# Altium schematic symbol library WE-PDF.SchLib: 26 symbols
Pins are listed as number, name and electrical type; pins without a type are passive.

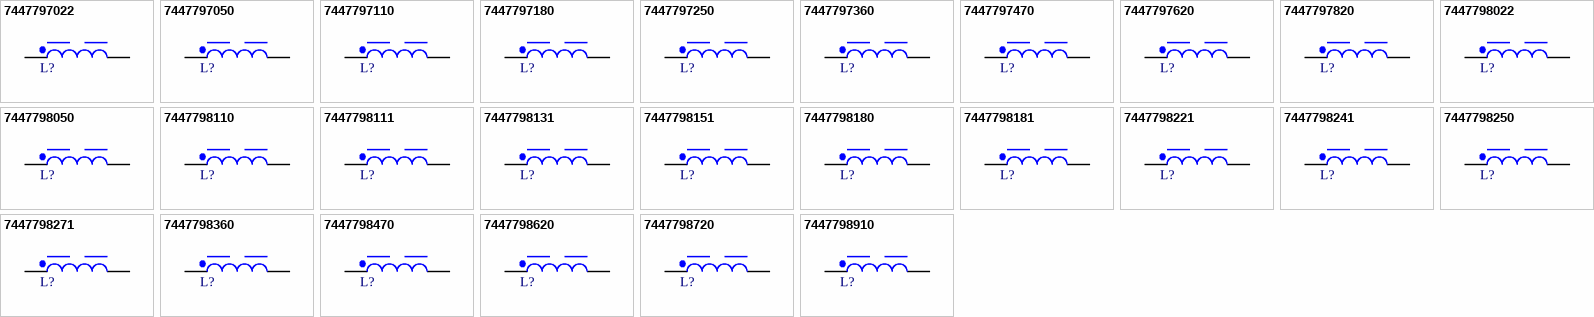
[diagram p0: symbols 7447797022 to 7447798910]

## 7447797022
designator L?, comment 0.22µH, 16A  (value not drawn)
WE-PDF SMT Power Inductor, size 1045, 0.22µH, 16A, 3.5mΩ; Manufacturer Part Number: 7447797022; Manufacturer: Wurth Elektronik; Case/Size Code: 1045; DC Resistance: 2.9mΩ; Saturation Current: 32A; Self Resonant Frequency: 328MHz; Category: Shielded Power Inductors; Match Code: WE-PDF; ComponentLink1Description: Website Link; ComponentLink1URL: https://www.we-online.com/redexpert/article/7447797022?ad; ComponentLink2Description: Datasheet Link; ComponentLink2URL: https://www.we-online.com/redexpert/spec/7447797022?ad; Mount: Surface Mount; Operating Temperature Max: 150°C; Operating Temperature Min: -40°C; Packaging: Tape and Reel; Length: 10.2mm; Width: 10.2mm; Height: 4.5mm; DC Resistance Max: 3.5mΩ; Inductance: 0.22µH; Rated Current: 16A
footprint WE-PDF_1045
simulation model 1045_7447797022_0.22u
pins: 1, 2

## 7447797050
designator L?, comment 0.5µH, 13.2A  (value not drawn)
WE-PDF SMT Power Inductor, size 1045, 0.5µH, 13.2A, 5mΩ; Manufacturer Part Number: 7447797050; Manufacturer: Wurth Elektronik; Case/Size Code: 1045; DC Resistance: 4.3mΩ; Saturation Current: 23A; Self Resonant Frequency: 182MHz; Category: Shielded Power Inductors; Match Code: WE-PDF; ComponentLink1Description: Website Link; ComponentLink1URL: https://www.we-online.com/redexpert/article/7447797050?ad; ComponentLink2Description: Datasheet Link; ComponentLink2URL: https://www.we-online.com/redexpert/spec/7447797050?ad; Mount: Surface Mount; Operating Temperature Max: 150°C; Operating Temperature Min: -40°C; Packaging: Tape and Reel; Length: 10.2mm; Width: 10.2mm; Height: 4.5mm; DC Resistance Max: 5mΩ; Inductance: 0.5µH; Rated Current: 13.2A
footprint WE-PDF_1045
simulation model 1045_7447797050_0.5u
pins: 1, 2

## 7447797110
designator L?, comment 1.1µH, 11.2A  (value not drawn)
WE-PDF SMT Power Inductor, size 1045, 1.1µH, 11.2A, 6.65mΩ; Manufacturer Part Number: 7447797110; Manufacturer: Wurth Elektronik; Case/Size Code: 1045; DC Resistance: 5.9mΩ; Saturation Current: 16A; Self Resonant Frequency: 116MHz; Category: Shielded Power Inductors; Match Code: WE-PDF; ComponentLink1Description: Website Link; ComponentLink1URL: https://www.we-online.com/redexpert/article/7447797110?ad; ComponentLink2Description: Datasheet Link; ComponentLink2URL: https://www.we-online.com/redexpert/spec/7447797110?ad; Mount: Surface Mount; Operating Temperature Max: 150°C; Operating Temperature Min: -40°C; Packaging: Tape and Reel; Length: 10.2mm; Width: 10.2mm; Height: 4.5mm; DC Resistance Max: 6.65mΩ; Inductance: 1.1µH; Rated Current: 11.2A
footprint WE-PDF_1045
simulation model 1045_7447797110_1.1u
pins: 1, 2

## 7447797180
designator L?, comment 1.8µH, 9.4A  (value not drawn)
WE-PDF SMT Power Inductor, size 1045, 1.8µH, 9.4A, 8.4mΩ; Manufacturer Part Number: 7447797180; Manufacturer: Wurth Elektronik; Case/Size Code: 1045; DC Resistance: 7.4mΩ; Saturation Current: 13A; Self Resonant Frequency: 86MHz; Category: Shielded Power Inductors; Match Code: WE-PDF; ComponentLink1Description: Website Link; ComponentLink1URL: https://www.we-online.com/redexpert/article/7447797180?ad; ComponentLink2Description: Datasheet Link; ComponentLink2URL: https://www.we-online.com/redexpert/spec/7447797180?ad; Mount: Surface Mount; Operating Temperature Max: 150°C; Operating Temperature Min: -40°C; Packaging: Tape and Reel; Length: 10.2mm; Width: 10.2mm; Height: 4.5mm; DC Resistance Max: 8.4mΩ; Inductance: 1.8µH; Rated Current: 9.4A
footprint WE-PDF_1045
simulation model 1045_7447797180_1.8u
pins: 1, 2

## 7447797250
designator L?, comment 2.5µH, 8.4A  (value not drawn)
WE-PDF SMT Power Inductor, size 1045, 2.5µH, 8.4A, 10.2mΩ; Manufacturer Part Number: 7447797250; Manufacturer: Wurth Elektronik; Case/Size Code: 1045; DC Resistance: 9mΩ; Saturation Current: 10.5A; Self Resonant Frequency: 61MHz; Category: Shielded Power Inductors; Match Code: WE-PDF; ComponentLink1Description: Website Link; ComponentLink1URL: https://www.we-online.com/redexpert/article/7447797250?ad; ComponentLink2Description: Datasheet Link; ComponentLink2URL: https://www.we-online.com/redexpert/spec/7447797250?ad; Mount: Surface Mount; Operating Temperature Max: 150°C; Operating Temperature Min: -40°C; Packaging: Tape and Reel; Length: 10.2mm; Width: 10.2mm; Height: 4.5mm; DC Resistance Max: 10.2mΩ; Inductance: 2.5µH; Rated Current: 8.4A
footprint WE-PDF_1045
simulation model 1045_7447797250_2.5u
pins: 1, 2

## 7447797360
designator L?, comment 3.6µH, 8.2A  (value not drawn)
WE-PDF SMT Power Inductor, size 1045, 3.6µH, 8.2A, 12.2mΩ; Manufacturer Part Number: 7447797360; Manufacturer: Wurth Elektronik; Case/Size Code: 1045; DC Resistance: 10.8mΩ; Saturation Current: 8.5A; Self Resonant Frequency: 55MHz; Category: Shielded Power Inductors; Match Code: WE-PDF; ComponentLink1Description: Website Link; ComponentLink1URL: https://www.we-online.com/redexpert/article/7447797360?ad; ComponentLink2Description: Datasheet Link; ComponentLink2URL: https://www.we-online.com/redexpert/spec/7447797360?ad; Mount: Surface Mount; Operating Temperature Max: 150°C; Operating Temperature Min: -40°C; Packaging: Tape and Reel; Length: 10.2mm; Width: 10.2mm; Height: 4.5mm; DC Resistance Max: 12.2mΩ; Inductance: 3.6µH; Rated Current: 8.2A
footprint WE-PDF_1045
simulation model 1045_7447797360_3.6u
pins: 1, 2

## 7447797470
designator L?, comment 4.7µH, 6.2A  (value not drawn)
WE-PDF SMT Power Inductor, size 1045, 4.7µH, 6.2A, 19.5mΩ; Manufacturer Part Number: 7447797470; Manufacturer: Wurth Elektronik; Case/Size Code: 1045; DC Resistance: 17.3mΩ; Saturation Current: 8A; Self Resonant Frequency: 45MHz; Category: Shielded Power Inductors; Match Code: WE-PDF; ComponentLink1Description: Website Link; ComponentLink1URL: https://www.we-online.com/redexpert/article/7447797470?ad; ComponentLink2Description: Datasheet Link; ComponentLink2URL: https://www.we-online.com/redexpert/spec/7447797470?ad; Mount: Surface Mount; Operating Temperature Max: 150°C; Operating Temperature Min: -40°C; Packaging: Tape and Reel; Length: 10.2mm; Width: 10.2mm; Height: 4.5mm; DC Resistance Max: 19.5mΩ; Inductance: 4.7µH; Rated Current: 6.2A
footprint WE-PDF_1045
simulation model 1045_7447797470_4.7u
pins: 1, 2

## 7447797620
designator L?, comment 6.2µH, 5.7A  (value not drawn)
WE-PDF SMT Power Inductor, size 1045, 6.2µH, 5.7A, 22.4mΩ; Manufacturer Part Number: 7447797620; Manufacturer: Wurth Elektronik; Case/Size Code: 1045; DC Resistance: 19.8mΩ; Saturation Current: 7.4A; Self Resonant Frequency: 36MHz; Category: Shielded Power Inductors; Match Code: WE-PDF; ComponentLink1Description: Website Link; ComponentLink1URL: https://www.we-online.com/redexpert/article/7447797620?ad; ComponentLink2Description: Datasheet Link; ComponentLink2URL: https://www.we-online.com/redexpert/spec/7447797620?ad; Mount: Surface Mount; Operating Temperature Max: 150°C; Operating Temperature Min: -40°C; Packaging: Tape and Reel; Length: 10.2mm; Width: 10.2mm; Height: 4.5mm; DC Resistance Max: 22.4mΩ; Inductance: 6.2µH; Rated Current: 5.7A
footprint WE-PDF_1045
simulation model 1045_7447797620_6.2u
pins: 1, 2

## 7447797820
designator L?, comment 8.2µH, 5.05A  (value not drawn)
WE-PDF SMT Power Inductor, size 1045, 8.2µH, 5.05A, 28.6mΩ; Manufacturer Part Number: 7447797820; Manufacturer: Wurth Elektronik; Case/Size Code: 1045; DC Resistance: 25.3mΩ; Saturation Current: 5.8A; Self Resonant Frequency: 28MHz; Category: Shielded Power Inductors; Match Code: WE-PDF; ComponentLink1Description: Website Link; ComponentLink1URL: https://www.we-online.com/redexpert/article/7447797820?ad; ComponentLink2Description: Datasheet Link; ComponentLink2URL: https://www.we-online.com/redexpert/spec/7447797820?ad; Mount: Surface Mount; Operating Temperature Max: 150°C; Operating Temperature Min: -40°C; Packaging: Tape and Reel; Length: 10.2mm; Width: 10.2mm; Height: 4.5mm; DC Resistance Max: 28.6mΩ; Inductance: 8.2µH; Rated Current: 5.05A
footprint WE-PDF_1045
simulation model 1045_7447797820_8.2u
pins: 1, 2

## 7447798022
designator L?, comment 0.22µH, 19A  (value not drawn)
WE-PDF SMT Power Inductor, size 1064, 0.22µH, 19A, 1.95mΩ; Manufacturer Part Number: 7447798022; Manufacturer: Wurth Elektronik; Case/Size Code: 1064; DC Resistance: 1.6mΩ; Saturation Current: 20A; Self Resonant Frequency: 337MHz; Category: Shielded Power Inductors; Match Code: WE-PDF; ComponentLink1Description: Website Link; ComponentLink1URL: https://www.we-online.com/redexpert/article/7447798022?ad; ComponentLink2Description: Datasheet Link; ComponentLink2URL: https://www.we-online.com/redexpert/spec/7447798022?ad; Mount: Surface Mount; Operating Temperature Max: 150°C; Operating Temperature Min: -40°C; Packaging: Tape and Reel; Length: 10.2mm; Width: 10.2mm; Height: 6.4mm; DC Resistance Max: 1.95mΩ; Inductance: 0.22µH; Rated Current: 19A
footprint WE-PDF_1064
simulation model 1064_7447798022_0.22u
pins: 1, 2

## 7447798050
designator L?, comment 0.5µH, 18.5A  (value not drawn)
WE-PDF SMT Power Inductor, size 1064, 0.5µH, 18.5A, 2.65mΩ; Manufacturer Part Number: 7447798050; Manufacturer: Wurth Elektronik; Case/Size Code: 1064; DC Resistance: 2.2mΩ; Saturation Current: 18A; Self Resonant Frequency: 172MHz; Category: Shielded Power Inductors; Match Code: WE-PDF; ComponentLink1Description: Website Link; ComponentLink1URL: https://www.we-online.com/redexpert/article/7447798050?ad; ComponentLink2Description: Datasheet Link; ComponentLink2URL: https://www.we-online.com/redexpert/spec/7447798050?ad; Mount: Surface Mount; Operating Temperature Max: 150°C; Operating Temperature Min: -40°C; Packaging: Tape and Reel; Length: 10.2mm; Width: 10.2mm; Height: 6.4mm; DC Resistance Max: 2.65mΩ; Inductance: 0.5µH; Rated Current: 18.5A
footprint WE-PDF_1064
simulation model 1064_7447798050_0.5u
pins: 1, 2

## 7447798110
designator L?, comment 1.1µH, 16.5A  (value not drawn)
WE-PDF SMT Power Inductor, size 1064, 1.1µH, 16.5A, 3.5mΩ; Manufacturer Part Number: 7447798110; Manufacturer: Wurth Elektronik; Case/Size Code: 1064; DC Resistance: 3mΩ; Saturation Current: 16A; Self Resonant Frequency: 104MHz; Category: Shielded Power Inductors; Match Code: WE-PDF; ComponentLink1Description: Website Link; ComponentLink1URL: https://www.we-online.com/redexpert/article/7447798110?ad; ComponentLink2Description: Datasheet Link; ComponentLink2URL: https://www.we-online.com/redexpert/spec/7447798110?ad; Mount: Surface Mount; Operating Temperature Max: 150°C; Operating Temperature Min: -40°C; Packaging: Tape and Reel; Length: 10.2mm; Width: 10.2mm; Height: 6.4mm; DC Resistance Max: 3.5mΩ; Inductance: 1.1µH; Rated Current: 16.5A
footprint WE-PDF_1064
simulation model 1064_7447798110_1.1u
pins: 1, 2

## 7447798111
designator L?, comment 11µH, 6.9A  (value not drawn)
WE-PDF SMT Power Inductor, size 1064, 11µH, 6.9A, 15.8mΩ; Manufacturer Part Number: 7447798111; Manufacturer: Wurth Elektronik; Case/Size Code: 1064; DC Resistance: 14mΩ; Saturation Current: 5.3A; Self Resonant Frequency: 25MHz; Category: Shielded Power Inductors; Match Code: WE-PDF; ComponentLink1Description: Website Link; ComponentLink1URL: https://www.we-online.com/redexpert/article/7447798111?ad; ComponentLink2Description: Datasheet Link; ComponentLink2URL: https://www.we-online.com/redexpert/spec/7447798111?ad; Mount: Surface Mount; Operating Temperature Max: 150°C; Operating Temperature Min: -40°C; Packaging: Tape and Reel; Length: 10.2mm; Width: 10.2mm; Height: 6.4mm; DC Resistance Max: 15.8mΩ; Inductance: 11µH; Rated Current: 6.9A
footprint WE-PDF_1064
simulation model 1064_7447798111_11u
pins: 1, 2

## 7447798131
designator L?, comment 13µH, 5.85A  (value not drawn)
WE-PDF SMT Power Inductor, size 1064, 13µH, 5.85A, 22.5mΩ; Manufacturer Part Number: 7447798131; Manufacturer: Wurth Elektronik; Case/Size Code: 1064; DC Resistance: 19.9mΩ; Saturation Current: 4.5A; Self Resonant Frequency: 25MHz; Category: Shielded Power Inductors; Match Code: WE-PDF; ComponentLink1Description: Website Link; ComponentLink1URL: https://www.we-online.com/redexpert/article/7447798131?ad; ComponentLink2Description: Datasheet Link; ComponentLink2URL: https://www.we-online.com/redexpert/spec/7447798131?ad; Mount: Surface Mount; Operating Temperature Max: 150°C; Operating Temperature Min: -40°C; Packaging: Tape and Reel; Length: 10.2mm; Width: 10.2mm; Height: 6.4mm; DC Resistance Max: 22.5mΩ; Inductance: 13µH; Rated Current: 5.85A
footprint WE-PDF_1064
simulation model 1064_7447798131_13u
pins: 1, 2

## 7447798151
designator L?, comment 15µH, 5.45A  (value not drawn)
WE-PDF SMT Power Inductor, size 1064, 15µH, 5.45A, 25.8mΩ; Manufacturer Part Number: 7447798151; Manufacturer: Wurth Elektronik; Case/Size Code: 1064; DC Resistance: 21.8mΩ; Saturation Current: 4A; Self Resonant Frequency: 19MHz; Category: Shielded Power Inductors; Match Code: WE-PDF; ComponentLink1Description: Website Link; ComponentLink1URL: https://www.we-online.com/redexpert/article/7447798151?ad; ComponentLink2Description: Datasheet Link; ComponentLink2URL: https://www.we-online.com/redexpert/spec/7447798151?ad; Mount: Surface Mount; Operating Temperature Max: 150°C; Operating Temperature Min: -40°C; Packaging: Tape and Reel; Length: 10.2mm; Width: 10.2mm; Height: 6.4mm; DC Resistance Max: 25.8mΩ; Inductance: 15µH; Rated Current: 5.45A
footprint WE-PDF_1064
simulation model 1064_7447798151_15u
pins: 1, 2

## 7447798180
designator L?, comment 1.8µH, 14.5A  (value not drawn)
WE-PDF SMT Power Inductor, size 1064, 1.8µH, 14.5A, 4.5mΩ; Manufacturer Part Number: 7447798180; Manufacturer: Wurth Elektronik; Case/Size Code: 1064; DC Resistance: 3.8mΩ; Saturation Current: 12.8A; Self Resonant Frequency: 74MHz; Category: Shielded Power Inductors; Match Code: WE-PDF; ComponentLink1Description: Website Link; ComponentLink1URL: https://www.we-online.com/redexpert/article/7447798180?ad; ComponentLink2Description: Datasheet Link; ComponentLink2URL: https://www.we-online.com/redexpert/spec/7447798180?ad; Mount: Surface Mount; Operating Temperature Max: 150°C; Operating Temperature Min: -40°C; Packaging: Tape and Reel; Length: 10.2mm; Width: 10.2mm; Height: 6.4mm; DC Resistance Max: 4.5mΩ; Inductance: 1.8µH; Rated Current: 14.5A
footprint WE-PDF_1064
simulation model 1064_7447798180_1.8u
pins: 1, 2

## 7447798181
designator L?, comment 18µH, 5A  (value not drawn)
WE-PDF SMT Power Inductor, size 1064, 18µH, 5A, 34.4mΩ; Manufacturer Part Number: 7447798181; Manufacturer: Wurth Elektronik; Case/Size Code: 1064; DC Resistance: 30.5mΩ; Saturation Current: 3.8A; Self Resonant Frequency: 18MHz; Category: Shielded Power Inductors; Match Code: WE-PDF; ComponentLink1Description: Website Link; ComponentLink1URL: https://www.we-online.com/redexpert/article/7447798181?ad; ComponentLink2Description: Datasheet Link; ComponentLink2URL: https://www.we-online.com/redexpert/spec/7447798181?ad; Mount: Surface Mount; Operating Temperature Max: 150°C; Operating Temperature Min: -40°C; Packaging: Tape and Reel; Length: 10.2mm; Width: 10.2mm; Height: 6.4mm; DC Resistance Max: 34.4mΩ; Inductance: 18µH; Rated Current: 5A
footprint WE-PDF_1064
simulation model 1064_7447798181_18u
pins: 1, 2

## 7447798221
designator L?, comment 22µH, 4.7A  (value not drawn)
WE-PDF SMT Power Inductor, size 1064, 22µH, 4.7A, 37.3mΩ; Manufacturer Part Number: 7447798221; Manufacturer: Wurth Elektronik; Case/Size Code: 1064; DC Resistance: 33mΩ; Saturation Current: 3.5A; Self Resonant Frequency: 17MHz; Category: Shielded Power Inductors; Match Code: WE-PDF; ComponentLink1Description: Website Link; ComponentLink1URL: https://www.we-online.com/redexpert/article/7447798221?ad; ComponentLink2Description: Datasheet Link; ComponentLink2URL: https://www.we-online.com/redexpert/spec/7447798221?ad; Mount: Surface Mount; Operating Temperature Max: 150°C; Operating Temperature Min: -40°C; Packaging: Tape and Reel; Length: 10.2mm; Width: 10.2mm; Height: 6.4mm; DC Resistance Max: 37.3mΩ; Inductance: 22µH; Rated Current: 4.7A
footprint WE-PDF_1064
simulation model 1064_7447798221_22u
pins: 1, 2

## 7447798241
designator L?, comment 24µH, 4.5A  (value not drawn)
WE-PDF SMT Power Inductor, size 1064, 24µH, 4.5A, 39.5mΩ; Manufacturer Part Number: 7447798241; Manufacturer: Wurth Elektronik; Case/Size Code: 1064; DC Resistance: 35mΩ; Saturation Current: 3.25A; Self Resonant Frequency: 16MHz; Category: Shielded Power Inductors; Match Code: WE-PDF; ComponentLink1Description: Website Link; ComponentLink1URL: https://www.we-online.com/redexpert/article/7447798241?ad; ComponentLink2Description: Datasheet Link; ComponentLink2URL: https://www.we-online.com/redexpert/spec/7447798241?ad; Mount: Surface Mount; Operating Temperature Max: 150°C; Operating Temperature Min: -40°C; Packaging: Tape and Reel; Length: 10.2mm; Width: 10.2mm; Height: 6.4mm; DC Resistance Max: 39.5mΩ; Inductance: 24µH; Rated Current: 4.5A
footprint WE-PDF_1064
simulation model 1064_7447798241_24u
pins: 1, 2

## 7447798250
designator L?, comment 2.5µH, 13.7A  (value not drawn)
WE-PDF SMT Power Inductor, size 1064, 2.5µH, 13.7A, 4.95mΩ; Manufacturer Part Number: 7447798250; Manufacturer: Wurth Elektronik; Case/Size Code: 1064; DC Resistance: 4.4mΩ; Saturation Current: 10.1A; Self Resonant Frequency: 57MHz; Category: Shielded Power Inductors; Match Code: WE-PDF; ComponentLink1Description: Website Link; ComponentLink1URL: https://www.we-online.com/redexpert/article/7447798250?ad; ComponentLink2Description: Datasheet Link; ComponentLink2URL: https://www.we-online.com/redexpert/spec/7447798250?ad; Mount: Surface Mount; Operating Temperature Max: 150°C; Operating Temperature Min: -40°C; Packaging: Tape and Reel; Length: 10.2mm; Width: 10.2mm; Height: 6.4mm; DC Resistance Max: 4.95mΩ; Inductance: 2.5µH; Rated Current: 13.7A
footprint WE-PDF_1064
simulation model 1064_7447798250_2.5u
pins: 1, 2

## 7447798271
designator L?, comment 27µH, 4.3A  (value not drawn)
WE-PDF SMT Power Inductor, size 1064, 27µH, 4.3A, 42.5mΩ; Manufacturer Part Number: 7447798271; Manufacturer: Wurth Elektronik; Case/Size Code: 1064; DC Resistance: 37.6mΩ; Saturation Current: 3.1A; Self Resonant Frequency: 15MHz; Category: Shielded Power Inductors; Match Code: WE-PDF; ComponentLink1Description: Website Link; ComponentLink1URL: https://www.we-online.com/redexpert/article/7447798271?ad; ComponentLink2Description: Datasheet Link; ComponentLink2URL: https://www.we-online.com/redexpert/spec/7447798271?ad; Mount: Surface Mount; Operating Temperature Max: 150°C; Operating Temperature Min: -40°C; Packaging: Tape and Reel; Length: 10.2mm; Width: 10.2mm; Height: 6.4mm; DC Resistance Max: 42.5mΩ; Inductance: 27µH; Rated Current: 4.3A
footprint WE-PDF_1064
simulation model 1064_7447798271_27u
pins: 1, 2

## 7447798360
designator L?, comment 3.6µH, 12A  (value not drawn)
WE-PDF SMT Power Inductor, size 1064, 3.6µH, 12A, 5.95mΩ; Manufacturer Part Number: 7447798360; Manufacturer: Wurth Elektronik; Case/Size Code: 1064; DC Resistance: 5.25mΩ; Saturation Current: 8.6A; Self Resonant Frequency: 46MHz; Category: Shielded Power Inductors; Match Code: WE-PDF; ComponentLink1Description: Website Link; ComponentLink1URL: https://www.we-online.com/redexpert/article/7447798360?ad; ComponentLink2Description: Datasheet Link; ComponentLink2URL: https://www.we-online.com/redexpert/spec/7447798360?ad; Mount: Surface Mount; Operating Temperature Max: 150°C; Operating Temperature Min: -40°C; Packaging: Tape and Reel; Length: 10.2mm; Width: 10.2mm; Height: 6.4mm; DC Resistance Max: 5.95mΩ; Inductance: 3.6µH; Rated Current: 12A
footprint WE-PDF_1064
simulation model 1064_7447798360_3.6u
pins: 1, 2

## 7447798470
designator L?, comment 4.7µH, 9.5A  (value not drawn)
WE-PDF SMT Power Inductor, size 1064, 4.7µH, 9.5A, 8.4mΩ; Manufacturer Part Number: 7447798470; Manufacturer: Wurth Elektronik; Case/Size Code: 1064; DC Resistance: 7.4mΩ; Saturation Current: 7.6A; Self Resonant Frequency: 44MHz; Category: Shielded Power Inductors; Match Code: WE-PDF; ComponentLink1Description: Website Link; ComponentLink1URL: https://www.we-online.com/redexpert/article/7447798470?ad; ComponentLink2Description: Datasheet Link; ComponentLink2URL: https://www.we-online.com/redexpert/spec/7447798470?ad; Mount: Surface Mount; Operating Temperature Max: 150°C; Operating Temperature Min: -40°C; Packaging: Tape and Reel; Length: 10.2mm; Width: 10.2mm; Height: 6.4mm; DC Resistance Max: 8.4mΩ; Inductance: 4.7µH; Rated Current: 9.5A
footprint WE-PDF_1064
simulation model 1064_7447798470_4.7u
pins: 1, 2

## 7447798620
designator L?, comment 6.2µH, 9.4A  (value not drawn)
WE-PDF SMT Power Inductor, size 1064, 6.2µH, 9.4A, 9.5mΩ; Manufacturer Part Number: 7447798620; Manufacturer: Wurth Elektronik; Case/Size Code: 1064; DC Resistance: 8.4mΩ; Saturation Current: 6.7A; Self Resonant Frequency: 33MHz; Category: Shielded Power Inductors; Match Code: WE-PDF; ComponentLink1Description: Website Link; ComponentLink1URL: https://www.we-online.com/redexpert/article/7447798620?ad; ComponentLink2Description: Datasheet Link; ComponentLink2URL: https://www.we-online.com/redexpert/spec/7447798620?ad; Mount: Surface Mount; Operating Temperature Max: 150°C; Operating Temperature Min: -40°C; Packaging: Tape and Reel; Length: 10.2mm; Width: 10.2mm; Height: 6.4mm; DC Resistance Max: 9.5mΩ; Inductance: 6.2µH; Rated Current: 9.4A
footprint WE-PDF_1064
simulation model 1064_7447798620_6.2u
pins: 1, 2

## 7447798720
designator L?, comment 7.2µH, 7.9A  (value not drawn)
WE-PDF SMT Power Inductor, size 1064, 7.2µH, 7.9A, 12.8mΩ; Manufacturer Part Number: 7447798720; Manufacturer: Wurth Elektronik; Case/Size Code: 1064; DC Resistance: 11.3mΩ; Saturation Current: 6A; Self Resonant Frequency: 31MHz; Category: Shielded Power Inductors; Match Code: WE-PDF; ComponentLink1Description: Website Link; ComponentLink1URL: https://www.we-online.com/redexpert/article/7447798720?ad; ComponentLink2Description: Datasheet Link; ComponentLink2URL: https://www.we-online.com/redexpert/spec/7447798720?ad; Mount: Surface Mount; Operating Temperature Max: 150°C; Operating Temperature Min: -40°C; Packaging: Tape and Reel; Length: 10.2mm; Width: 10.2mm; Height: 6.4mm; DC Resistance Max: 12.8mΩ; Inductance: 7.2µH; Rated Current: 7.9A
footprint WE-PDF_1064
simulation model 1064_7447798720_7.2u
pins: 1, 2

## 7447798910
designator L?, comment 9.1µH, 7.35A  (value not drawn)
WE-PDF SMT Power Inductor, size 1064, 9.1µH, 7.35A, 14.35mΩ; Manufacturer Part Number: 7447798910; Manufacturer: Wurth Elektronik; Case/Size Code: 1064; DC Resistance: 12.7mΩ; Saturation Current: 5.4A; Self Resonant Frequency: 27MHz; Category: Shielded Power Inductors; Match Code: WE-PDF; ComponentLink1Description: Website Link; ComponentLink1URL: https://www.we-online.com/redexpert/article/7447798910?ad; ComponentLink2Description: Datasheet Link; ComponentLink2URL: https://www.we-online.com/redexpert/spec/7447798910?ad; Mount: Surface Mount; Operating Temperature Max: 150°C; Operating Temperature Min: -40°C; Packaging: Tape and Reel; Length: 10.2mm; Width: 10.2mm; Height: 6.4mm; DC Resistance Max: 14.35mΩ; Inductance: 9.1µH; Rated Current: 7.35A
footprint WE-PDF_1064
simulation model 1064_7447798910_9.1u
pins: 1, 2